# Altium schematic symbol library 1843091.SchLib: 1 symbol
Pins are listed as number, name and electrical type; pins without a type are passive.

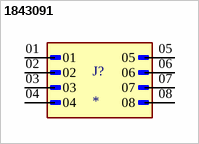
[diagram p0: symbol 1843091]

## 1843091
designator J?
MF: {'manufacturer': u'Phoenix Contact'}; MP: 1843091; Package: None; Price: None; Value: *; Availability: Unavailable
footprint PHOENIX_1843091
pins: 01, 02, 03, 04, 05, 06, 07, 08